# EAGLE library part SN75174 (library lichtenstein_onion)
Quadruple Differential Line Driver Datasheet <http://www.ti.com/lit/ds/symlink/sn75174.pdf>
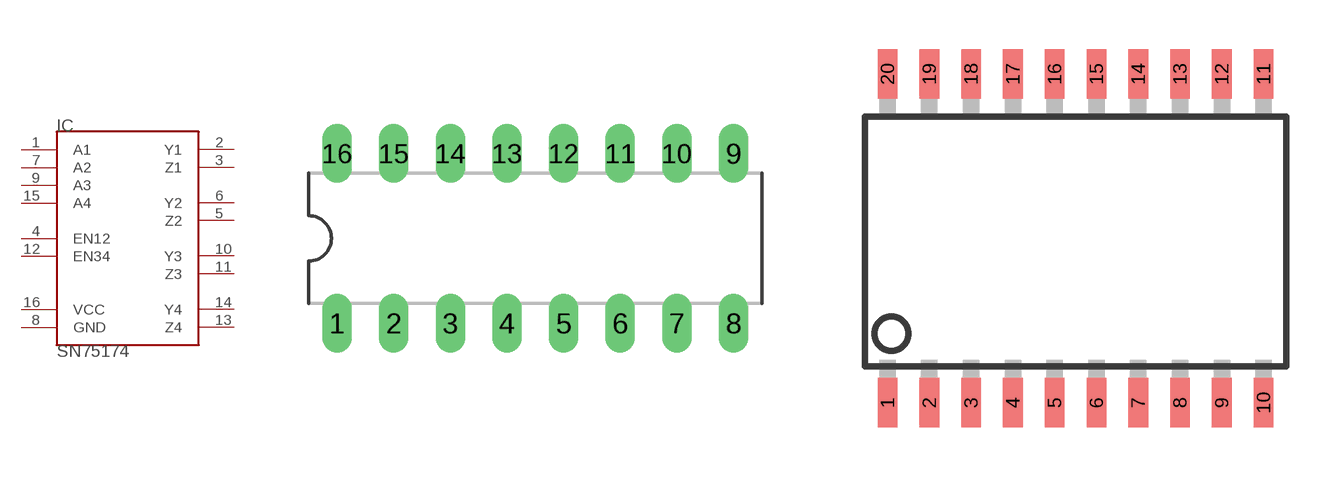
[diagram p13: symbol with the pads of DIL16; footprints DIL16, SOIC20S]

Designator prefix IC

## SN75174PDIP-16 (MOUSER: 595-SN75174N)  [DIL16]
1  A1  in
2  Y1  out
3  Z1  out
4  EN12  in
5  Z2  out
6  Y2  out
7  A2  in
8  GND  sup
9  A3  in
10  Y3  out
11  Z3  out
12  EN34  in
13  Z4  out
14  Y4  out
15  A4  in
16  VCC  sup

## SN75174SOIC-20 (MOUSER: 595-SN75174DWR)  [SOIC20S]
1  A1  in
2  Y1  out
4  Z1  out
5  EN12  in
6  Z2  out
8  Y2  out
9  A2  in
10  GND  sup
11  A3  in
12  Y3  out
14  Z3  out
15  EN34  in
16  Z4  out
18  Y4  out
19  A4  in
20  VCC  sup

## Footprint DIL16 (pad centres in mm)
Dual In Line Package
drill 0.813 long: 1 -8.89,-3.81; 2 -6.35,-3.81; 3 -3.81,-3.81; 4 -1.27,-3.81; 5 1.27,-3.81; 6 3.81,-3.81; 7 6.35,-3.81; 8 8.89,-3.81; 9 8.89,3.81; 10 6.35,3.81; 11 3.81,3.81; 12 1.27,3.81; 13 -1.27,3.81; 14 -3.81,3.81; 15 -6.35,3.81; 16 -8.89,3.81

## Footprint SOIC20S (pad centres in mm)
Wide Plastic Gull Wing Small Outline Package
smd 0.6 x 1.5: 1 -5.715,-5; 2 -4.445,-5; 3 -3.175,-5; 4 -1.905,-5; 5 -0.635,-5; 6 0.635,-5; 7 1.905,-5; 8 3.175,-5; 9 4.445,-5; 10 5.715,-5; 11 5.715,5; 12 4.445,5; 13 3.175,5; 14 1.905,5; 15 0.635,5; 16 -0.635,5; 17 -1.905,5; 18 -3.175,5; 19 -4.445,5; 20 -5.715,5